# Altium footprint library E2S_E2S_031_V1.PcbLib: 1 footprints
Each footprint in its own frame and in the unit in brackets; x right, y up, seen from the top. Pads: shape width x height; smd on the part's side, far side on the other; paste and mask are expansions set on the pad; w line width, h text height; cw(c..) or ccw(c..) is an arc to the next point about the centre after c.
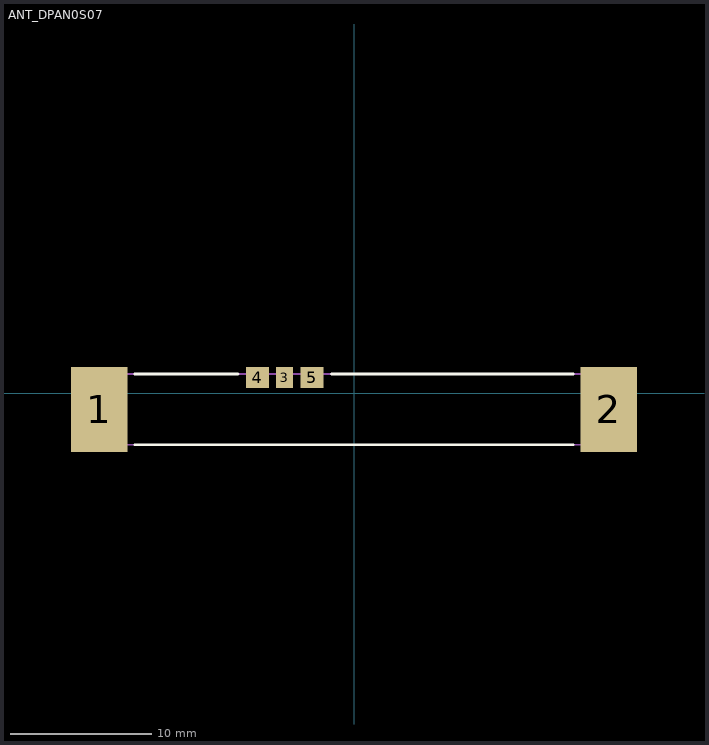
[diagram p0: the footprint, top view; thin cyan lines are the x and y axes]

## ANT_DPAN0S07 [mm]
height 5
pads (5):
  rect 4x6 smd: 1(-18,-1.125) 2(18,-1.125)
  rect 1.2x1.5 smd: 3(-4.9,1.125)
  rect 1.65x1.5 smd: 4(-6.825,1.125) 5(-2.975,1.125)
Top Overlay:
  lines w0.203: -15.5,-3.625 15.5,-3.625 ; -15.5,1.375 -8.2,1.375 ; -1.6,1.373 15.5,1.375
Mechanical 1:
  text "'.Designator'" at -1.824,-1.481 h1.52
Mechanical 15:
  lines w0.127: -18.5,-3.625 18.5,-3.625 18.5,1.375 -18.5,1.375 -18.5,-3.625
Multi-Layer:
  pour cut-out: -22.5,7.875 -22.5,-5.125 22.5,-5.125 22.5,7.875 -2.15,7.875 -2.15,1.875 -6.3,1.875 -6.3,7.875
3D body: height 5, standoff 0, extent -18.542,-3.625 18.542,1.375